# EAGLE library part P140KV1-F25BR (library Amplifier_Parts)
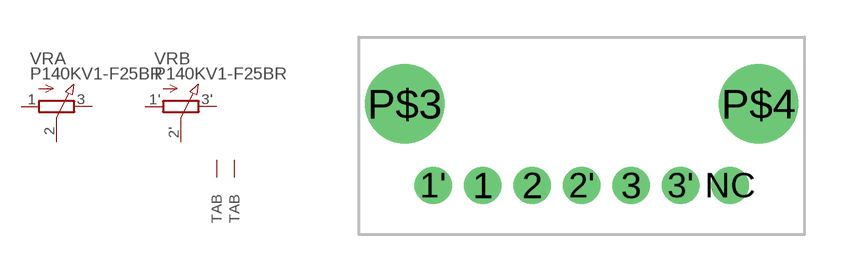
[diagram p4: symbol with the pads of TONE_POT_2GANG; footprint TONE_POT_2GANG]

Designator prefix VR; gates A=POTENTIOMETER B=POTENTIOMETER G$1=PIN G$2=PIN

## P140KV1-F25BR  [TONE_POT_2GANG]
1  A:A  pas
1'  B:A  pas
2  A:B  pas
2'  B:B  pas
3  A:C  pas
3'  B:C  pas
P$3  G$1:TAB  pas
P$4  G$2:TAB  pas

## Footprint TONE_POT_2GANG (pad centres in mm)
drill 1: 1 -4,0; 1' -6,0; 2 -2,0; 2' 0,0; 3 2,0; 3' 4,0; NC 6,0
drill 2.2 pad 2.413: P$3 -7.15,3.3; P$4 7.15,3.3